# Altium footprint library GOSTDiode.PcbLib: 46 footprints (part 3 of 3)
Each footprint in its own frame and in the unit in brackets; x right, y up, seen from the top. Pads: shape width x height; smd on the part's side, far side on the other; paste and mask are expansions set on the pad; w line width, h text height; cw(c..) or ccw(c..) is an arc to the next point about the centre after c.
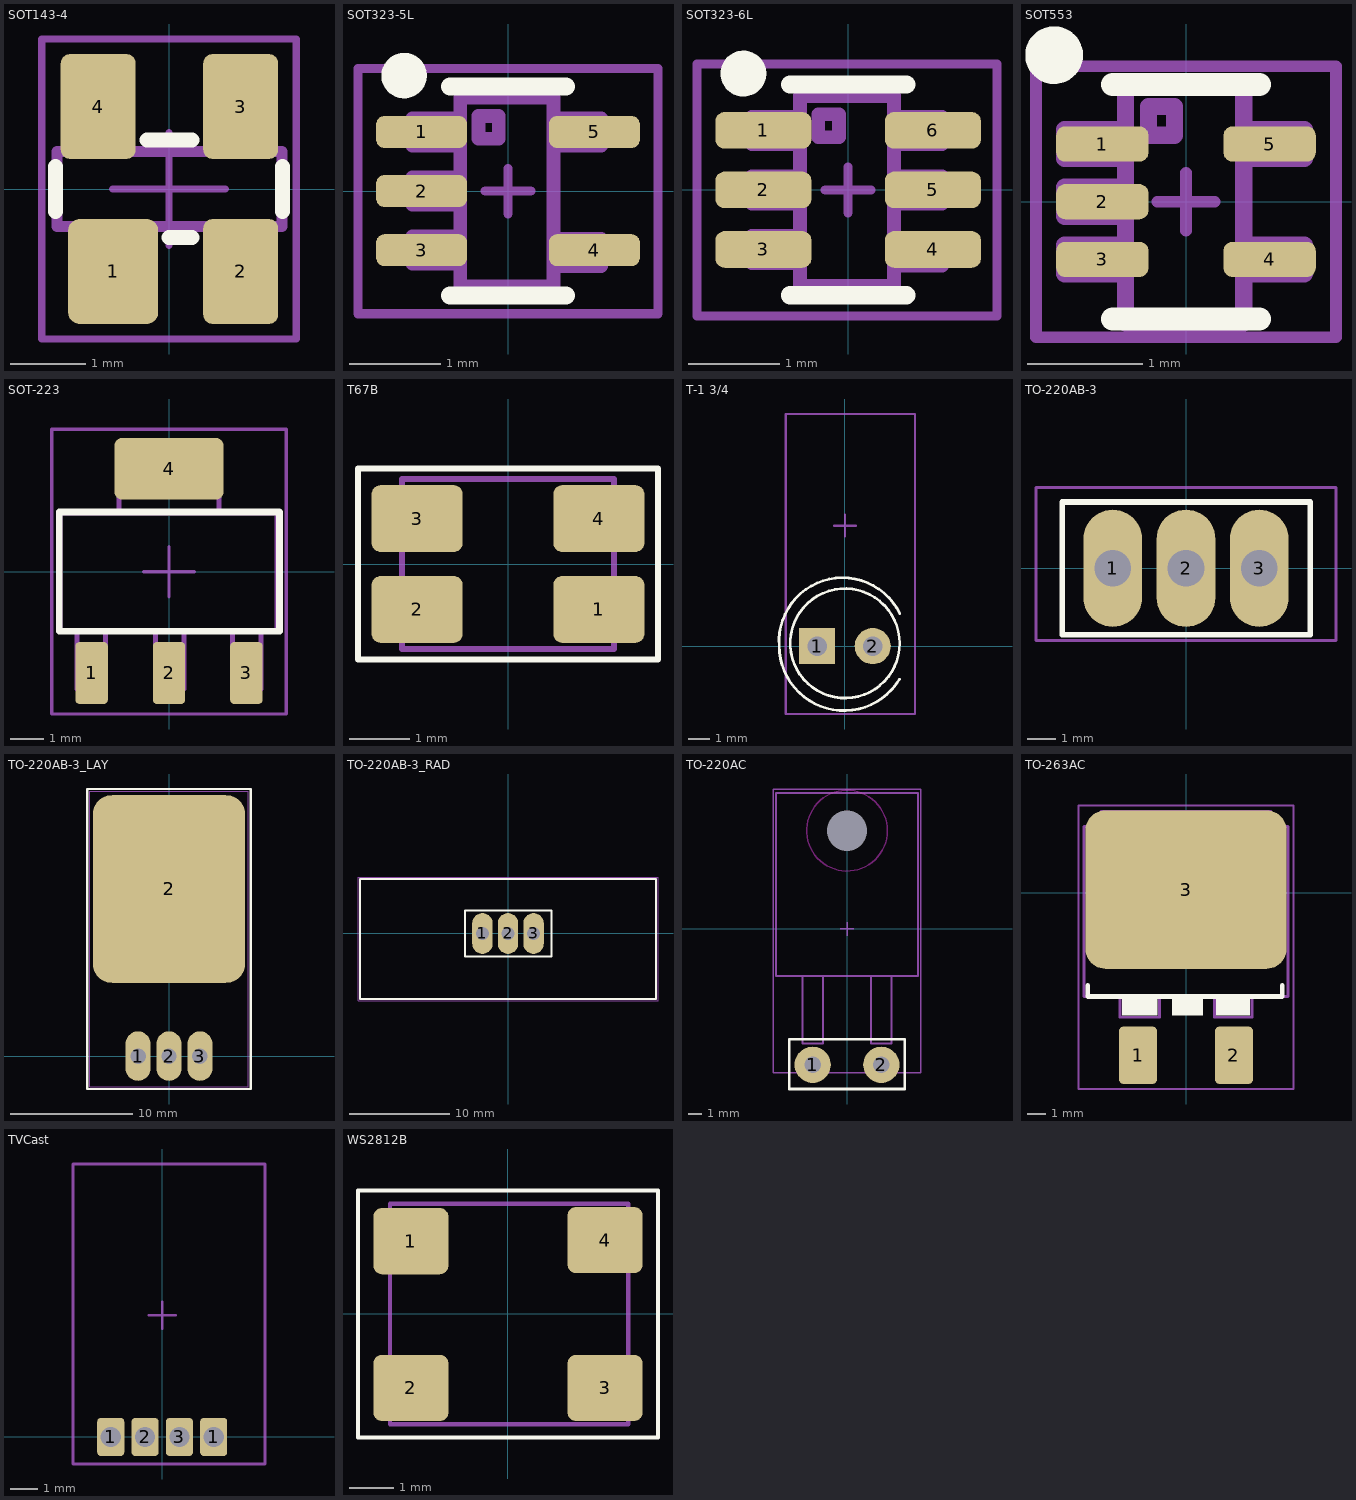
[diagram p2: the footprints below, top view; thin cyan lines are the x and y axes]

## SOT143-4 [mm]
height 1.12
pads (4):
  rrect25% 1.2x1.4 smd: 1(-0.75,-1.1)
  rrect25% 1x1.4 smd: 2(0.95,-1.1) 3(0.95,1.1) 4(-0.95,1.1)
Top Overlay:
  lines w0.2: -1.518,-0.3 -1.518,0.297 ; -0.297,0.65 0.3,0.65 ; -0.006,-0.65 0.3,-0.65 ; 1.506,-0.297 1.506,0.3
Mechanical 9:
  text ".Designator" at -4.275,2.8 h3.5
Mechanical 10:
  text ".Comment" at -3,-3.8 h2
Mechanical 11:
  lines w0.15: -1.2,-0.525 -1.2,-1.2 -0.325,-1.2 -0.325,-0.5 ; -1.2,0.5 -1.2,1.2 -0.65,1.2 -0.65,0.525 ; 0.675,-0.55 0.675,-1.225 1.225,-1.225 1.225,-0.525 ; 0.675,0.5 0.675,1.2 1.225,1.2 1.225,0.525 ; -1.5,-0.5 -1.5,0.5 1.5,0.5 1.5,-0.5 -1.5,-0.5
Mechanical 15:
  lines w0.1: -0.756,0 0.744,0 ; -0.006,-0.75 -0.006,0.75 ; -1.706,-2 -1.706,2 1.694,2 1.694,-2 -1.706,-2
3D body "User Library-sot143.step": height 1, standoff 0, extent -1.46,-1.21 1.46,1.21

## SOT323-5L [mm]
pads (5):
  rrect50% 1x0.35 smd: 1(-0.95,0.65) 2(-0.95,0) 3(-0.95,-0.65) 4(0.95,-0.65) 5(0.95,0.65)
Top Overlay:
  circle w0.25: c-1.143,1.27 r0.125
  lines w0.2: -0.635,-1.15 0.635,-1.15 ; -0.635,1.15 0.635,1.15
Mechanical 9:
  text ".Designator" at -4.25,2.175 h3.5
Mechanical 10:
  text ".Comment" at -3.125,-2.9 h2
Mechanical 11:
  lines w0.15: -0.525,-0.8 -1.05,-0.8 -1.05,-0.5 -0.525,-0.5 ; -0.525,-0.15 -1.05,-0.15 -1.05,0.15 -0.525,0.15 ; -0.525,0.5 -1.05,0.5 -1.05,0.8 -0.525,0.8 ; 0.5,-0.825 1.025,-0.825 1.025,-0.525 0.5,-0.525 ; 0.5,0.5 1.025,0.5 1.025,0.8 0.5,0.8 ; -0.525,-1.05 -0.525,1.025 0.5,1.025 0.5,-1.05 -0.525,-1.05 ; -0.325,0.575 -0.325,0.825 -0.1,0.825 -0.1,0.575 -0.325,0.575
Mechanical 15:
  lines w0.1: -0.25,0 0.25,0 ; 0,-0.25 0,0.25 ; -1.65,-1.35 -1.65,1.35 1.65,1.35 1.65,-1.35 -1.65,-1.35
3D body "User Library-User Library-SOT-323-5L.step": height 1.03, standoff 0.03, extent -1.051,-1.05 1.051,1.05

## SOT323-6L [mm]
pads (6):
  rrect50% 1.05x0.4 smd: 1(-0.925,0.65) 2(-0.925,0) 3(-0.925,-0.65) 4(0.925,-0.65) 5(0.925,0) 6(0.925,0.65)
Top Overlay:
  circle w0.25: c-1.143,1.27 r0.125
  lines w0.2: -0.635,-1.15 0.635,-1.15 ; -0.635,1.15 0.635,1.15
Mechanical 9:
  text ".Designator" at -4.25,2.175 h3.5
Mechanical 10:
  text ".Comment" at -3.125,-2.9 h2
Mechanical 11:
  lines w0.15: -0.525,-0.8 -1.05,-0.8 -1.05,-0.5 -0.525,-0.5 ; -0.525,-0.15 -1.05,-0.15 -1.05,0.15 -0.525,0.15 ; -0.525,0.5 -1.05,0.5 -1.05,0.8 -0.525,0.8 ; 0.5,-0.825 1.025,-0.825 1.025,-0.525 0.5,-0.525 ; 0.5,-0.15 1.025,-0.15 1.025,0.15 0.5,0.15 ; 0.5,0.5 1.025,0.5 1.025,0.8 0.5,0.8 ; -0.525,-1.05 -0.525,1.025 0.5,1.025 0.5,-1.05 -0.525,-1.05 ; -0.325,0.575 -0.325,0.825 -0.1,0.825 -0.1,0.575 -0.325,0.575
Mechanical 15:
  lines w0.1: -0.25,0 0.25,0 ; 0,-0.25 0,0.25 ; -1.65,-1.375 1.625,-1.375 1.625,1.375 -1.65,1.375 -1.65,-1.375
3D body "28014.stp": height 0.93, standoff -0.02, extent -1.05,-1 1.05,1

## SOT553 [mm]
pads (5):
  rrect50% 0.8x0.305 smd: 1(-0.725,0.5) 2(-0.725,0) 3(-0.725,-0.5) 4(0.725,-0.5) 5(0.725,0.5)
Top Overlay:
  circle w0.25: c-1.143,1.27 r0.125
  lines w0.2: -0.635,-1.016 0.635,-1.016 ; -0.635,1.016 0.635,1.016
Mechanical 9:
  text ".Designator" at -4.25,2.175 h3.5
Mechanical 10:
  text ".Comment" at -3.125,-2.9 h2
Mechanical 11:
  lines w0.15: -0.525,-0.625 -1.05,-0.625 -1.05,-0.375 -0.525,-0.375 ; -0.525,-0.125 -1.05,-0.125 -1.05,0.125 -0.525,0.125 ; -0.525,0.375 -1.05,0.375 -1.05,0.625 -0.525,0.625 ; 0.5,-0.625 1.025,-0.625 1.025,-0.375 0.5,-0.375 ; 0.5,0.375 1.025,0.375 1.025,0.625 0.5,0.625 ; -0.525,-1.05 0.5,-1.05 0.5,1.025 -0.525,1.025 -0.525,-1.05 ; -0.325,0.575 -0.1,0.575 -0.1,0.825 -0.325,0.825 -0.325,0.575
Mechanical 15:
  lines w0.1: -0.25,0 0.25,0 ; 0,-0.25 0,0.25 ; -1.3,-1.175 1.3,-1.175 1.3,1.175 -1.3,1.175 -1.3,-1.175
3D body "User Library-sot-553.STEP": height 0.48, standoff -0.02, extent -0.8,-0.8 0.8,0.8

## SOT-223 [mm]
pads (4):
  rrect25% 0.97x1.85 smd: 1(-2.311,-3.024) 2(0,-3.024) 3(2.311,-3.024)
  rrect25% 3.27x1.85 smd: 4(0,3.074)
Top Overlay:
  lines w0.203: -3.277,-1.778 -3.277,1.778 3.302,1.778 3.302,-1.778 -3.277,-1.778
Mechanical 9:
  text ".Designator" at -5.125,4.95 h3.5
Mechanical 10:
  text ".Comment" at -3,-5.575 h2
Mechanical 11:
  lines w0.15: -2.75,-1.778 -2.75,-3.5 -1.9,-3.5 -1.9,-1.778 ; -1.5,1.778 -1.5,3.5 1.5,3.5 1.5,1.75 ; -0.4,-1.778 -0.4,-3.5 0.45,-3.5 0.45,-1.778 ; 1.9,-1.778 1.9,-3.5 2.75,-3.5 2.75,-1.778 ; -3.25,-1.75 3.222,-1.75 3.222,1.75 -3.25,1.75 -3.25,-1.75
Mechanical 15:
  lines w0.1: -0.75,0 0.75,0 ; 0,-0.75 0,0.75 ; -3.5,-4.25 -3.5,4.25 3.5,4.25 3.5,-4.25 -3.5,-4.25
3D body "User Library-SOT-223-4.STEP": height 1.65, standoff 0, extent -3.25,-3.543 3.25,3.543

## T67B [mm] "Enhanced Optical Power LED"
pads (4):
  rrect25% 1.5x1.1 smd: 1(1.5,-0.75) 2(-1.5,-0.75) 3(-1.5,0.75) 4(1.5,0.75)
Top Overlay:
  lines w0.1: -2.475,-1.575 -2.475,1.575 2.475,1.575 2.475,-1.575 -2.475,-1.575
Mechanical 7:
  lines w0.1: -1.75,-1.4 -1.75,1.4 1.75,1.4 1.75,-1.4 -1.75,-1.4
3D body "User Library-PLCC4RGBCT-CA LED SMD RGB.step": height 1.95, standoff 0.05, extent -1.75,-1.4 1.75,1.4

## T-1 3/4 [mil]
pads (2):
  rect 65x65 hole 35: 1(-50,0)
  round 65 hole 35: 2(50,0)
Top Overlay:
  circle w5: c0,5 r98.43
  lines w5: -118.16,0.71 cw(c-4.16,8.68) 98.56,58.78 ; -118.11,0.46 ccw(c-1.66,0.46) 98.15,-59.51
Mechanical 9:
  text ".Designator" at -212.6,-212.6 h137.8
Mechanical 10:
  text ".Comment" at -118.16,-287.4 h78.74
Mechanical 15:
  lines w3.94: -19.68,216.54 19.68,216.54 ; 0,196.85 0,236.22 ; -106.3,-122.05 -106.3,417.32 125.98,417.32 125.98,-122.05 -106.3,-122.05
3D body "ALSRobot-LED Red 5mm V.step": height 255.89, standoff -98.43, extent -103.34,-9.84 119.09,412.28

## TO-220AB-3 [mil]
pads (3):
  oval 80x160 hole 50: 1(-100,0) 2(0,0) 3(100,0)
Top Overlay:
  lines w7.87: -168.9,-90.55 -168.9,90.55 169.69,90.55 169.69,-90.55 -168.9,-90.55
Mechanical 9:
  text ".Designator" at -224.41,212.6 h137.8
Mechanical 10:
  text ".Comment" at -102.36,118.11 h78.74
Mechanical 15:
  lines w3.94: -204.72,-98.43 -204.72,110.24 204.72,110.24 204.72,-98.43 -204.72,-98.43
3D body "User Library-Transistors TO-220AB.step": height 801.77, standoff -493.11, extent -200,-59.06 200,106.11

## TO-220AB-3_LAY [mil]
pads (4):
  oval 80x160 hole 50: 1(-100,0) 2(0,0) 3(100,0)
  rrect25% 492.13x606.3 smd: 2(0,539.37)
Top Overlay:
  lines w7.87: -263.78,-106.3 263.78,-106.3 263.78,862.2 -263.78,862.2 -263.78,-106.3
Mechanical 9:
  text ".Designator" at -236.22,-216.54 h137.8
Mechanical 10:
  text ".Comment" at -114.17,-311.02 h78.74
Mechanical 15:
  lines w3.94: -255.91,-98.43 255.91,-98.43 255.91,854.33 -255.91,854.33 -255.91,-98.43
3D body "User Library-TO220-AB-H Full.step": height 179.13, standoff -278.74, extent -194.88,-14.27 194.88,781.5

## TO-220AB-3_RAD [mil]
pads (3):
  oval 80x160 hole 50: 1(-100,0) 2(0,0) 3(100,0)
Top Overlay:
  lines w7.87: -578.74,-255.91 578.74,-255.91 578.74,212.6 -578.74,212.6 -578.74,-255.91 ; -168.9,-90.55 169.69,-90.55 169.69,90.55 -168.9,90.55 -168.9,-90.55
Mechanical 9:
  text ".Designator" at -255.91,314.96 h137.8
Mechanical 10:
  text ".Comment" at -145.67,232.28 h78.74
Mechanical 15:
  lines w3.94: -586.61,-263.78 586.61,-263.78 586.61,220.47 -586.61,220.47 -586.61,-263.78
3D body "User Library-Transistors TO-220AB.step": height 801.77, standoff -493.11, extent -200,-59.06 200,106.11
3D body "sk_09___l_20.stp": height 787.4, standoff 0, extent -570.86,-248.03 570.87,204.73

## TO-220AC [mm]
pads (3):
  round 2.7 hole 1.2: 1(-2.55,-10.1) 2(2.55,-10.1)
  round 0 hole 3 unplated: ""(0,7.3)
Top Overlay:
  lines w0.2: -4.3,-11.9 4.3,-11.9 4.3,-8.2 -4.3,-8.2 -4.3,-11.9
Keep-Out Layer:
  circle w0.1: c0,7.3 r3
Mechanical 9:
  text ".Designator" at -5.5,13.3 h3.5
Mechanical 10:
  text ".Comment" at -2.4,10.9 h2
Mechanical 11:
  lines w0.15: -3.3,-3.5 -3.3,-8.5 -1.8,-8.5 -1.8,-3.5 ; 1.8,-3.5 1.8,-8.5 3.3,-8.5 3.3,-3.5 ; -5.27,-3.5 -5.27,1.577 -5.27,10.12 5.27,10.12 5.27,-3.5 -5.27,-3.5
  text "1" at -2.8,-2.741 h4
Mechanical 15:
  lines w0.1: -0.5,0 0.5,0 ; 0,-0.5 0,0.5 ; -5.5,-10.7 5.5,-10.7 5.5,10.4 -5.5,10.4 -5.5,-10.7
3D body "TO220 bend.STEP": height 2.73, standoff -10, extent -5.27,-10.426 5.27,10.12

## TO-263AC [mm]
pads (3):
  rrect25% 2.03x3.05 smd: 1(-2.54,-8.615) 2(2.54,-8.615)
  rrect25% 10.66x8.38 smd: 3(0,0.152)
Top Overlay:
  rectangle: -3.4,-6.5 -1.5,-5.6
  rectangle: 1.6,-6.5 3.4,-5.5
  rectangle: -0.75,-6.5 0.9,-5.5
  lines w0.254: -5.2,-4.905 -5.2,-5.5 5.1,-5.5 5.1,-4.905
Mechanical 7:
  lines w0.15: -4.5,3.5 -4.5,4.3 4.5,4.3 4.5,3.5
  lines w0.152: 1.502,-5.5 1.503,-6.604 ; 3.495,-5.5 3.492,-6.604 ; -3.5,-6.604 -3.5,-5.5 -1.4,-5.5 -1.4,-6.604 ; -3.5,-6.604 -1.4,-6.604 ; -3.5,-6.604 -1.4,-6.604 ; 1.503,-6.604 3.492,-6.604 ; 1.503,-6.604 3.492,-6.604 ; -5.4,-5.5 5.4,-5.5 5.4,3.5 -5.4,3.5 -5.4,-5.5
Mechanical 9:
  text ".Designator" at -4.4,5.3 h3
Mechanical 10:
  text ".Comment" at -3.1,-12 h2
Mechanical 15:
  lines w0.1: -0.75,0 0.75,0 ; 0,-0.75 0,0.75 ; -5.7,-10.4 5.7,-10.4 5.7,4.6 -5.7,4.6 -5.7,-10.4
3D body: height 0.25, standoff 0, extent -4.9,0.3 -4.9,0.3
3D body "V20D202C.STEP": height 1.8, standoff 0, extent -5.1,-8.725 5.1,4.205

## TVCast [mm]
pads (4):
  rrect25% 1x1.4 hole 0.75: 1(-1.905,0) 1(1.905,0) 2(-0.635,0) 3(0.635,0)
Mechanical 9:
  text ".Designator" at -5.5,-3.2 h3.5
Mechanical 10:
  text ".Comment" at -3,-5.575 h2
Mechanical 15:
  lines w0.1: -0.5,4.5 0.5,4.5 ; 0,4 0,5 ; -3.3,-1 3.8,-1 3.8,10.1 -3.3,10.1 -3.3,-1
3D body "TVCast.STEP": height 2.65, standoff -1.18, extent -3.15,-0.385 3.65,9.95

## WS2812B [mm] "Ñâåòîäèîä SMD RGB ñ ïèêñåëüíîé àäðåñàöèåé"
pads (4):
  rrect25% 1.7x1.5 smd: 1(-2.2,1.65) 2(-2.2,-1.675) 3(2.2,-1.675) 4(2.2,1.675)
Top Overlay:
  lines w0.1: -3.4,-2.8 3.4,-2.8 3.4,2.8 -3.4,2.8 -3.4,-2.8
Mechanical 7:
  lines w0.1: -2.675,-2.5 2.725,-2.5 2.725,2.5 -2.675,2.5 -2.675,-2.5
3D body "User Library-WS2812B.step": height 1.7, standoff 0, extent -2.675,-2.5 2.725,2.5